# EAGLE library part UDN2916B-T (library Allegro_By_element14_Batch_1)
Dual Full-Bridge PWM Motor Driver
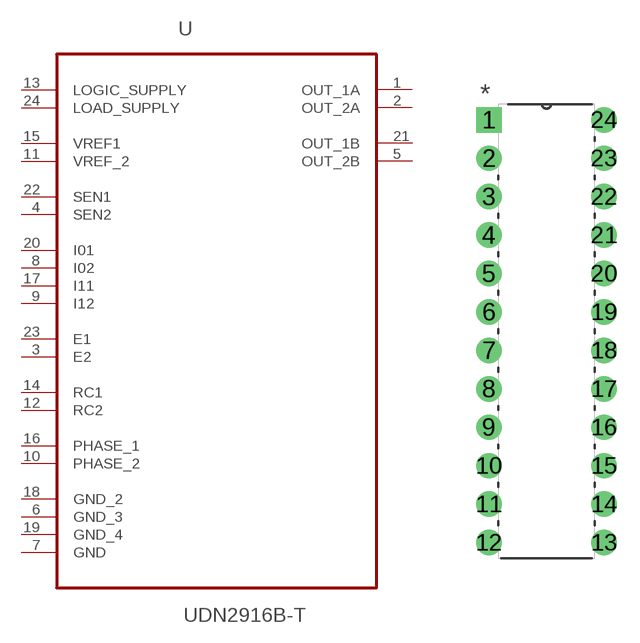
[diagram p36: symbol with the pads of DIP254P762X533-24; footprint DIP254P762X533-24]

Designator prefix U

## UDN2916B-T (MPN: UDN2916B-T; OC_FARNELL: 1193494; OC_NEWARK: 65K7908; PACKAGE: PDIP-24; SUPPLIER: ALLEGRO MICROSYSTEMS)  [DIP254P762X533-24]
1  OUT_1A  out
2  OUT_2A  out
3  E2  in
4  SEN2  in
5  OUT_2B  out
6  GND_3  pas
7  GND  pas
8  I02  in
9  I12  in
10  PHASE_2  in
11  VREF_2  in
12  RC2  in
13  LOGIC_SUPPLY  pwr
14  RC1  in
15  VREF1  in
16  PHASE_1  in
17  I11  in
18  GND_2  pas
19  GND_4  pas
20  I01  in
21  OUT_1B  out
22  SEN1  in
23  E1  in
24  LOAD_SUPPLY  pwr

## Footprint DIP254P762X533-24 (pad centres in mm)
drill 1.118 square: 1 -7.62,27.94
drill 1.118: 2 -7.62,25.4; 3 -7.62,22.86; 4 -7.62,20.32; 5 -7.62,17.78; 6 -7.62,15.24; 7 -7.62,12.7; 8 -7.62,10.16; 9 -7.62,7.62; 10 -7.62,5.08; 11 -7.62,2.54; 12 -7.62,0; 13 0,0; 14 0,2.54; 15 0,5.08; 16 0,7.62; 17 0,10.16; 18 0,12.7; 19 0,15.24; 20 0,17.78; 21 0,20.32; 22 0,22.86; 23 0,25.4; 24 0,27.94